# EAGLE library part 649012227222 (library Wuerth_Elektronik_eiCan_07_Mini_Power_Connectors)
WR-MPC4-4.20mm Male Dual Row Angled Header with Mounting Pegs,12 pins
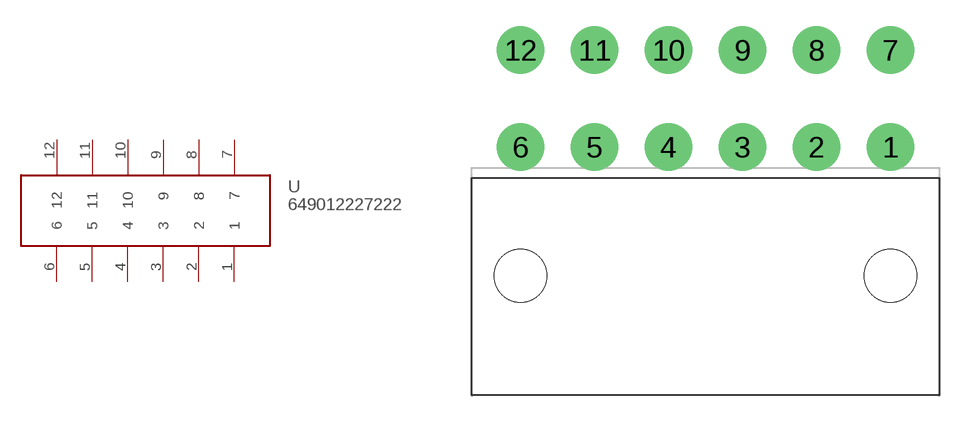
[diagram p13: symbol with the pads of 649012227222; footprint 649012227222]

Designator prefix -

## 649012227222  [649012227222]
1  1
2  2
3  3
4  4
5  5
6  6
7  7
8  8
9  9
10  10
11  11
12  12

## Footprint 649012227222 (pad centres in mm)
WR-MPC4-4.20mm Male Dual Row Angled Header with Mounting Pegs,12 pins
drill 1.8 round: 1 10.095,-2.75; 2 5.895,-2.75; 3 1.695,-2.75; 4 -2.505,-2.75; 5 -6.705,-2.75; 6 -10.905,-2.75; 7 10.095,2.75; 8 5.895,2.75; 9 1.695,2.75; 10 -2.505,2.75; 11 -6.705,2.75; 12 -10.905,2.75
hole 3 at -10.905,-10.05
hole 3 at 10.095,-10.05